# EAGLE library part DRV8837 (library Inductors)
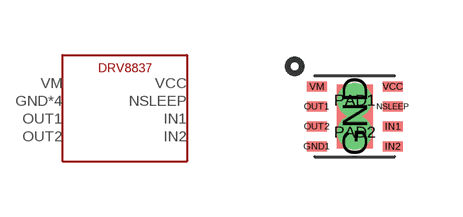
[diagram p0: symbol with the pads of WSON-8; footprint WSON-8]

Designator prefix -

## DRV8837  [WSON-8]
GND  P$4
GND1  P$4
IN1  P$7
IN2  P$8
NSLEEP  P$6
OUT1  P$2
OUT2  P$3
PAD1  P$4
PAD2  P$4
VCC  P$5
VM  P$1

## Footprint WSON-8 (pad centres in mm)
smd 0.9 x 1.6: GND 0,0
smd 0.5 x 0.25: GND1 -0.95,-0.75; IN1 0.95,-0.25; IN2 0.95,-0.75; NSLEEP 0.95,0.25; OUT1 -0.95,0.25; OUT2 -0.95,-0.25; VCC 0.95,0.75; VM -0.95,0.75
drill 0.35 pad 0.508: PAD1 0,0.4; PAD2 0,-0.4